# EAGLE library part MCP4921-E/SN (library johnmamish-microchip)
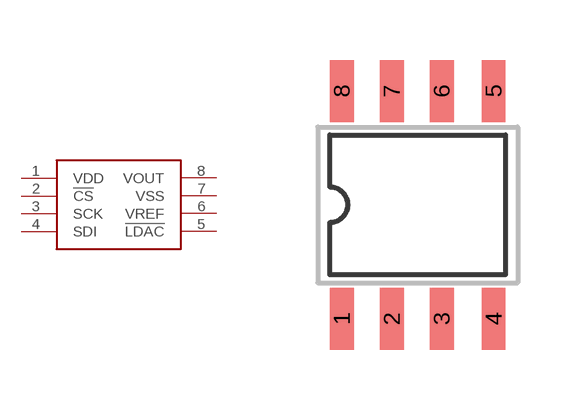
[diagram p1: symbol with the pads of MICROCHIP_SOIC_8; footprint MICROCHIP_SOIC_8]

Designator prefix -

## MCP4921-E/SN  [MICROCHIP_SOIC_8]
1  VDD
2  !CS!
3  SCK
4  SDI
5  !LDAC!
6  VREF
7  VSS
8  VOUT

## Footprint MICROCHIP_SOIC_8 (pad centres in mm)
smd 0.6 x 1.55: 1 0,-5.7; 2 1.25,-5.7; 3 2.5,-5.7; 4 3.8,-5.7; 5 3.8,0; 6 2.5,0; 7 1.25,0; 8 0,0